# EAGLE library part BQ34Z100-G1 (library BQ34Z100_G1)
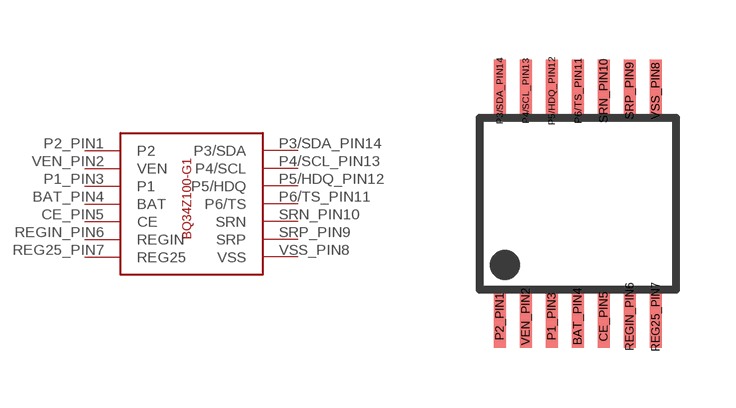
[diagram p0: symbol with the pads of TSSOP14; footprint TSSOP14]

Designator prefix -

## BQ34Z100-G1  [TSSOP14]
BAT_PIN4  BAT
CE_PIN5  CE
P1_PIN3  P1
P2_PIN1  P2
P3/SDA_PIN14  P3/SDA
P4/SCL_PIN13  P4/SCL
P5/HDQ_PIN12  P5/HDQ
P6/TS_PIN11  P6/TS
REG25_PIN7  REG25
REGIN_PIN6  REGIN
SRN_PIN10  SRN
SRP_PIN9  SRP
VEN_PIN2  VEN
VSS_PIN8  VSS

## Footprint TSSOP14 (pad centres in mm)
14-Lead Plastic Thin Shrink Small Outline (ST) - 4.4 mm Body TSSOP Source: http://ww1.microchip.com/downloads/en/DeviceDoc/40039E.pdf
smd 0.3 x 1.55: BAT_PIN4 0,-2.825; CE_PIN5 0.65,-2.825; P1_PIN3 -0.65,-2.825; P2_PIN1 -1.95,-2.825; P3/SDA_PIN14 -1.95,2.825; P4/SCL_PIN13 -1.3,2.825; P5/HDQ_PIN12 -0.65,2.825; P6/TS_PIN11 0,2.825; REG25_PIN7 1.95,-2.825; REGIN_PIN6 1.3,-2.825; SRN_PIN10 0.65,2.825; SRP_PIN9 1.3,2.825; VEN_PIN2 -1.3,-2.825; VSS_PIN8 1.95,2.825